# Altium schematic symbol library BOBINAS E INDUTORES.SchLib: 10 symbols
Pins are listed as number, name and electrical type; pins without a type are passive.

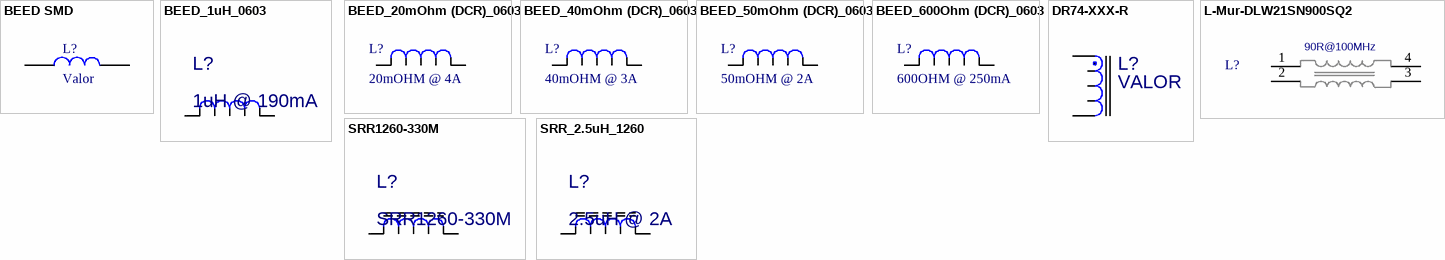
[diagram p0: symbols BEED SMD to SRR_2.5uH_1260]

## BEED SMD
designator L?, comment Valor
BEED SMD; Value: Valor; Fabricante: *; MPN: *; Footprint: BEED SMD
footprint BEED SMD 0603 (Chip Inductor, 2-Leads, Body 1,60x0,80mm, IPC Medium Density)
footprint BEED SMD 0805 (Chip Inductor, 2-Leads, Body 2,00x1,20mm, IPC Medium Density)
footprint BEED SMD 0201
footprint BEED SMD 0402
pins: 1, 2

## BEED_1uH_0603
designator L?, comment 1uH @ 190mA
Footprint: 0603; ComponentLink1Description: loja; Value: 1uH @ 190mA; ComponentLink2Description: datasheet
footprint IND_SRR1260_SMD
footprint BEED SMD 0603 (Chip Inductor, 2-Leads, Body 1,60x0,80mm, IPC Medium Density)
pins: 1, 2
1 alternate drawing of the same symbol

## BEED_20mOhm (DCR)_0603
designator L?, comment 20mOHM @ 4A
70 Ohms @ 100MHz 1 Fio de Ferrite da Linha Elétrica 0603 (1608 Métrico) 4A 20mOhm; Value: 20mOHM @ 4A; Fabricante: *; MPN: *; Footprint: 0603
footprint BEED SMD 0603 (Chip Inductor, 2-Leads, Body 1,60x0,80mm, IPC Medium Density)
footprint BEED SMD 0805 (Chip Inductor, 2-Leads, Body 2,00x1,20mm, IPC Medium Density)
footprint BEED SMD 0201
footprint BEED SMD 0402
pins: 1, 2

## BEED_40mOhm (DCR)_0603
designator L?, comment 40mOHM @ 3A
30 Ohms a 100 MHz 1 Linha de Sinal de Esferas de Ferrite 0603 (1608 Métricas) 3A 40mOhm; Value: 40mOHM @ 3A; Fabricante: *; MPN: *; Footprint: 0603
footprint BEED SMD 0603 (Chip Inductor, 2-Leads, Body 1,60x0,80mm, IPC Medium Density)
footprint BEED SMD 0805 (Chip Inductor, 2-Leads, Body 2,00x1,20mm, IPC Medium Density)
footprint BEED SMD 0201
footprint BEED SMD 0402
pins: 1, 2

## BEED_50mOhm (DCR)_0603
designator L?, comment 50mOHM @ 2A
220 Ohms @ 100MHz 1  Ferrite Bead 0603 (1608 Metric) 2A 50mOhm; Value: 50mOHM @ 2A; Fabricante: *; MPN: *; Footprint: 0603
footprint BEED SMD 0603 (Chip Inductor, 2-Leads, Body 1,60x0,80mm, IPC Medium Density)
footprint BEED SMD 0805 (Chip Inductor, 2-Leads, Body 2,00x1,20mm, IPC Medium Density)
footprint BEED SMD 0201
footprint BEED SMD 0402
pins: 1, 2

## BEED_600Ohm (DCR)_0603
designator L?, comment 600OHM @ 250mA
600 Ohms @ 100MHz 1 Esferas de ferrite 0603 (1608 métricas) 250mA 600mOhm; Value: 600OHM @ 250mA; Fabricante: *; MPN: *; Footprint: 0603
footprint BEED SMD 0603 (Chip Inductor, 2-Leads, Body 1,60x0,80mm, IPC Medium Density)
footprint BEED SMD 0805 (Chip Inductor, 2-Leads, Body 2,00x1,20mm, IPC Medium Density)
footprint BEED SMD 0201
footprint BEED SMD 0402
pins: 1, 2

## DR74-XXX-R
designator L?, comment VALOR
FIXED IND SMD (7.60mm x 7.60mm); MPN: DR74-XXX-R; Fabricante: Cooper Bussmann; Footprint: SMD (7.60mm x 7.60mm); Value: VALOR
footprint DR74_SMD (SMD 2 PADS (7.60mm x 7.60mm))
pins: 1, 2

## L-Mur-DLW21SN900SQ2
designator L?, comment 90R@100MHz
Common Mode Choke High Speed 90R@100MHz-330mA-25%, SMD 4 PADS; MPN: DLW21SN900SQ2; Rating: 330mA; Tolerance: 25%; Fabricante: Murata; Footprint: SMD 4 Pads; ComponentLink1Description: loja; ComponentLink1URL: https://www.digikey.com/product-detail/en/murata-electronics-north-america/DLW21SN900SQ2L/490-5137-1-ND/1922888; ComponentLink2Description: datasheet; ComponentLink2URL: https://media.digikey.com/pdf/Data%20Sheets/Murata%20PDFs/DLx_Series.pdf; Value: 90R@100MHz
footprint L_Mur_DLW21SN900SQ2 (Common Mode Choke 0.079" L x 0.047" W (2.00mm x 1.20mm))
pins: 1, 2, 3, 4

## SRR1260-330M
designator L?
FIXED IND 33UH 3A 60 MOHM SMD; Fabricante: Bourns Electronics; MPN: SRR1260-330M; Footprint: SMD 2 Pads; ComponentLink1Description: loja; ComponentLink1URL: https://www.digikey.com/product-detail/en/bourns-inc/SRR1260-330M/SRR1260-330MCT-ND/2127415; Value: SRR1260-330M; ComponentLink2Description: datasheet; ComponentLink2URL: https://www.bourns.com/docs/Product-Datasheets/SRR1260.pdf
footprint IND_SRR1260_SMD
pins: 1, 2
1 alternate drawing of the same symbol

## SRR_2.5uH_1260
designator L?, comment 2.5uH @ 2A
Footprint: 1260; ComponentLink1Description: loja; Value: 2.5uH @ 2A; ComponentLink2Description: datasheet
footprint IND_SRR1260_SMD
pins: 1, 2
1 alternate drawing of the same symbol